# Altium footprint library 7101SW.PcbLib: 1 footprints
Each footprint in its own frame and in the unit in brackets; x right, y up, seen from the top. Pads: shape width x height; smd on the part's side, far side on the other; paste and mask are expansions set on the pad; w line width, h text height; cw(c..) or ccw(c..) is an arc to the next point about the centre after c.
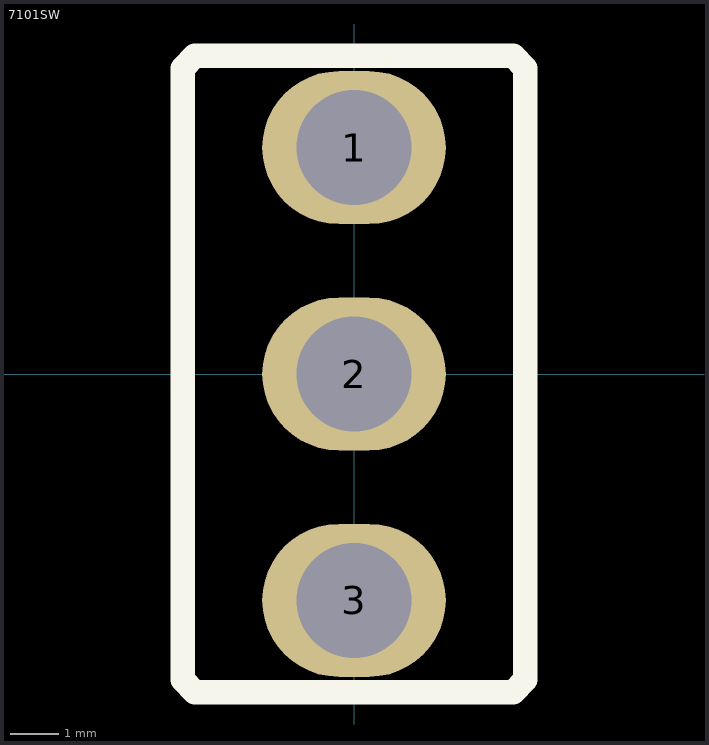
[diagram p0: the footprint, top view; thin cyan lines are the x and y axes]

## 7101SW [mil]
pads (3):
  oval 150x125 hole 94: 1(0,185) 2(0,0) 3(0,-185)
Top Overlay:
  lines w20: -140,-250 -130,-260 -125,-260 0,-260 125,-260 130,-260 140,-250 140,0 140,250 130,260 125,260 0,260 -125,260 -130,260 -140,250 -140,0 -140,-250
3D body: height 1119.86, standoff -155.12, extent -199.99,-250.53 200.01,250.01